# EAGLE library part DOOBA_NOMAD (library dooba)
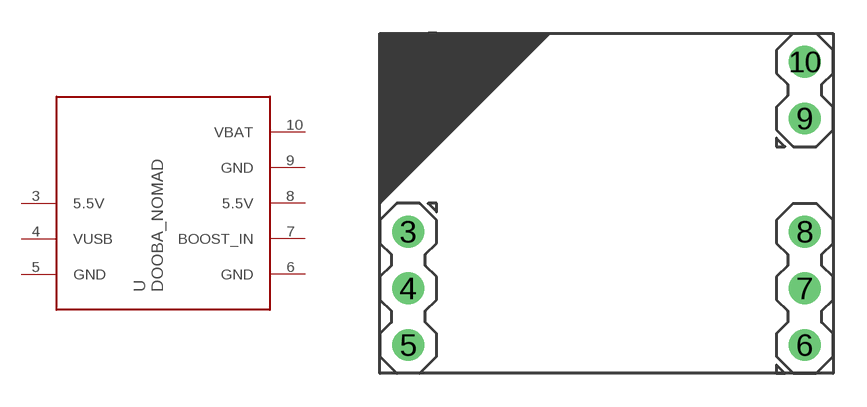
[diagram p31: symbol with the pads of DOOBA_NOMAD; footprint DOOBA_NOMAD]

Designator prefix U

## DOOBA_NOMAD  [DOOBA_NOMAD]
3  5.5V
4  VUSB
5  GND
6  GND
7  BOOST_IN
8  5.5V
9  GND
10  VBAT

## Footprint DOOBA_NOMAD (pad centres in mm)
drill 0.8 pad 1.422: 3 -8.89,-1.27; 4 -8.89,-3.81; 5 -8.89,-6.35; 6 8.89,-6.35; 7 8.89,-3.81; 8 8.89,-1.27; 9 8.89,3.81; 10 8.89,6.35